# Altium schematic symbol library diodes.SchLib: 4 symbols
Pins are listed as number, name and electrical type; pins without a type are passive.

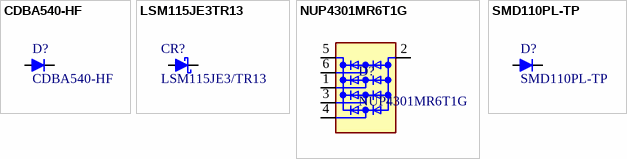
[diagram p0: symbols CDBA540-HF to SMD110PL-TP]

## CDBA540-HF
designator D?
DIODE SCHOTTKY 40V 5A SMA; Supplier 1: Digi-Key; Supplier Part Number 1: 641-1707-1-ND; Mounted: Yes; Package / Case: SMA; Volt: 40V
footprint SMA/DO-214AC (SMA, DO-214AC. From Diode DS19005 rev 16-2)
pins: 1 A, 2 K

## LSM115JE3TR13
designator CR?, comment LSM115JE3/TR13
Diode 15 V 1A Surface Mount DO-214BA; Mfr_Name: Microchip; Type: DEV; Copyright: Copyright (C) 2024 Ultra Librarian. All rights reserved.; Manufacturer_Part_Number: LSM115JE3/TR13; RefDes: RefDes
footprint DO-214BA_MCH
pins: 1 A, 2 K

## NUP4301MR6T1G
designator D?
4CH Clamp Ipp Tvs Diode Surface Mount SOT23-6 (SC74); Volt: 70; Supplier 1: Digi-Key; Supplier Part Number 1: NUP4301MR6T1GOSTR-ND; Mounted: Yes; Package / Case: SOT23-6
footprint SOT-23-6 (SOT23-6, from TI DDC (R-PDSO-G6))
pins: 1 L2, 2 GND, 3 L3, 4 L4, 5 VDD, 6 L1

## SMD110PL-TP
designator D?
DIODE SCHOTTKY 100V 1A SOD123FL; Supplier 1: Digi-Key; Supplier Part Number 1: SMD110PL-TPMSTR-ND; Mounted: Yes; Package / Case: SOD123FL; Volt: 100V
footprint SOD-123F (SOD-123F from https://www.diodes.com/assets/Package-Files/SOD123F.pdf on 2017-03-16)
pins: 1 A, 2 K